# Altium footprint library P5采集核心_KKK.PcbLib: 34 footprints (part 3 of 3)
Each footprint in its own frame and in the unit in brackets; x right, y up, seen from the top. Pads: shape width x height; smd on the part's side, far side on the other; paste and mask are expansions set on the pad; w line width, h text height; cw(c..) or ccw(c..) is an arc to the next point about the centre after c.
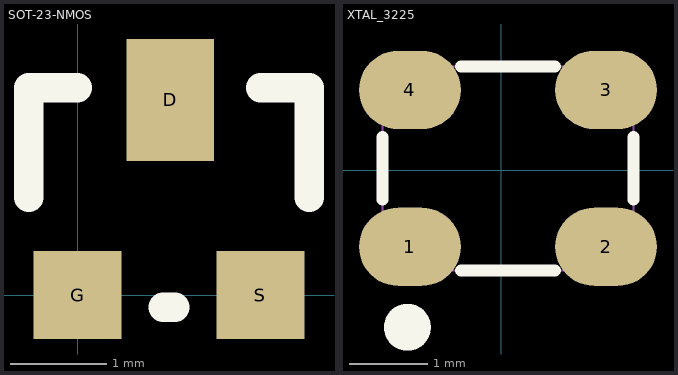
[diagram p2: the footprints below, top view; thin cyan lines are the x and y axes]

## SOT-23-NMOS [mil]
height 125.98
pads (3):
  rect 36x50 smd: D(38,80)
  rect 36x36 smd: G(0,0) S(75,0)
Top Overlay:
  lines w12: -20,40 -20,85 0,85 ; 35,-5 40,-5 ; 75,85 95,85 95,40

## XTAL_3225 [mm]
height 3.2
pads (4):
  oval 1.3x1 smd: 1(-1.166,-0.973) 2(1.334,-0.973) 3(1.334,1.027) 4(-1.166,1.027)
Top Overlay:
  circle w0.3: c-1.2,-2 r0.149
  lines w0.152: -1.516,-0.373 -1.516,0.427 ; -0.516,-1.273 0.684,-1.273 ; -0.516,1.327 0.684,1.327 ; 1.684,-0.373 1.684,0.427
Mechanical 8:
  lines w0.025: -0.116,1.327 1.684,1.327 1.684,-1.273 -1.516,-1.273 -1.516,1.327 -0.016,1.327